# EAGLE library part KLDVX-0202- (library Stecker)
Power Jack, Vertical, PCB Mount, 2.0 mm, 2.5 mm, 3.0 mm Center Pin Source: KLDVX-0202x.pdf
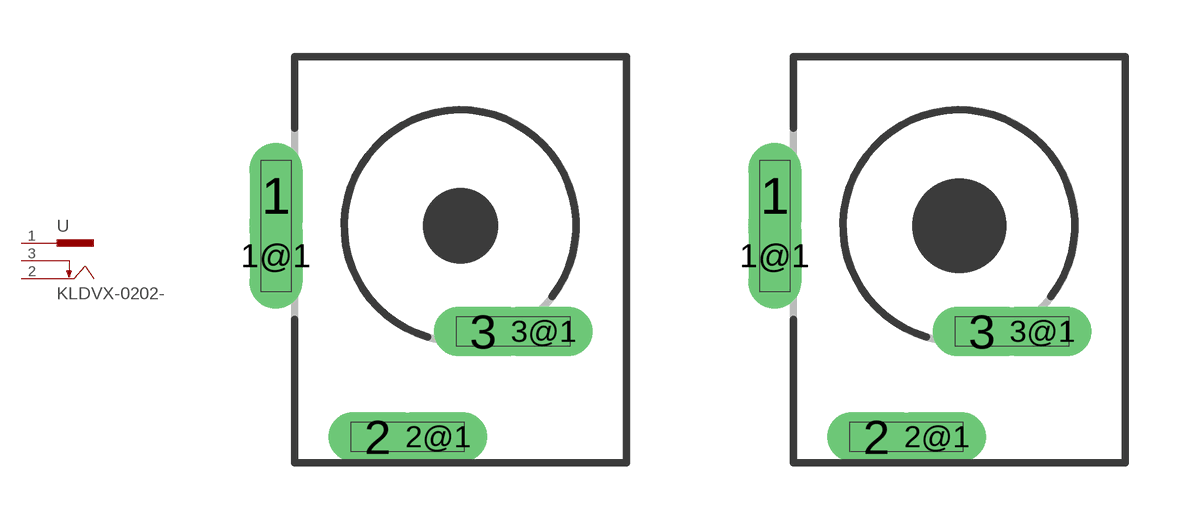
[diagram p1: symbol with the pads of KLDVX-0202-A; footprints KLDVX-0202-A, KLDVX-0202-B]

Designator prefix -

## KLDVX-0202-A (OC_FARNELL: unknown; OC_NEWARK: unknown)  [KLDVX-0202-A]
1  1  pas
1@1  1  pas
2  2  pas
2@1  2  pas
3  3  pas
3@1  3  pas

## KLDVX-0202-B (OC_FARNELL: unknown; OC_NEWARK: unknown)  [KLDVX-0202-B]
Pads as for KLDVX-0202-A

## KLDVX-0202-C (OC_FARNELL: unknown; OC_NEWARK: unknown)  [KLDVX-0202-C]
Pads as for KLDVX-0202-A

## Footprint KLDVX-0202-A (pad centres in mm)
Power Jack, Vertical, PCB Mount, 2.0 mm Center Pin Source: KLDVX-0202x.pdf
drill 0.8 pad 1.4 long: 1 -4.9,0.8; 1@1 -4.9,-0.8
drill 0.8 pad 1.3 long: 2 -2.2,-5.6; 2@1 -0.6,-5.6; 3 0.6,-2.8; 3@1 2.2,-2.8

## Footprint KLDVX-0202-B (pad centres in mm)
Power Jack, Vertical, PCB Mount, 2.5 mm Center Pin Source: KLDVX-0202x.pdf
drill 0.8 pad 1.4 long: 1 -4.9,0.8; 1@1 -4.9,-0.8
drill 0.8 pad 1.3 long: 2 -2.2,-5.6; 2@1 -0.6,-5.6; 3 0.6,-2.8; 3@1 2.2,-2.8

## Footprint KLDVX-0202-C (pad centres in mm)
Power Jack, Vertical, PCB Mount, 3.0 mm Center Pin Source: KLDVX-0202x.pdf
drill 0.8 pad 1.4 long: 1 -4.9,0.8; 1@1 -4.9,-0.8
drill 0.8 pad 1.3 long: 2 -2.2,-5.6; 2@1 -0.6,-5.6; 3 0.6,-2.8; 3@1 2.2,-2.8